# Altium integrated library SW-18010P.IntLib: 1 symbol
Pins are listed as number, name and electrical type; pins without a type are passive.

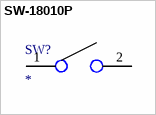
[diagram p0: symbol SW-18010P]

## SW-18010P
designator SW?
datasheet: https://media.digikey.com/pdf/Data%20Sheets/Adafruit%20PDFs/1766_Web.pdf; link: https://www.digikey.es/product-detail/es/1766/1528-2158-ND/7244944
footprint SW-18010P
pins: 1, 2